# Altium footprint library ECSlib.PcbLib: 67 footprints (part 4 of 5)
Each footprint in its own frame and in the unit in brackets; x right, y up, seen from the top. Pads: shape width x height; smd on the part's side, far side on the other; paste and mask are expansions set on the pad; w line width, h text height; cw(c..) or ccw(c..) is an arc to the next point about the centre after c.
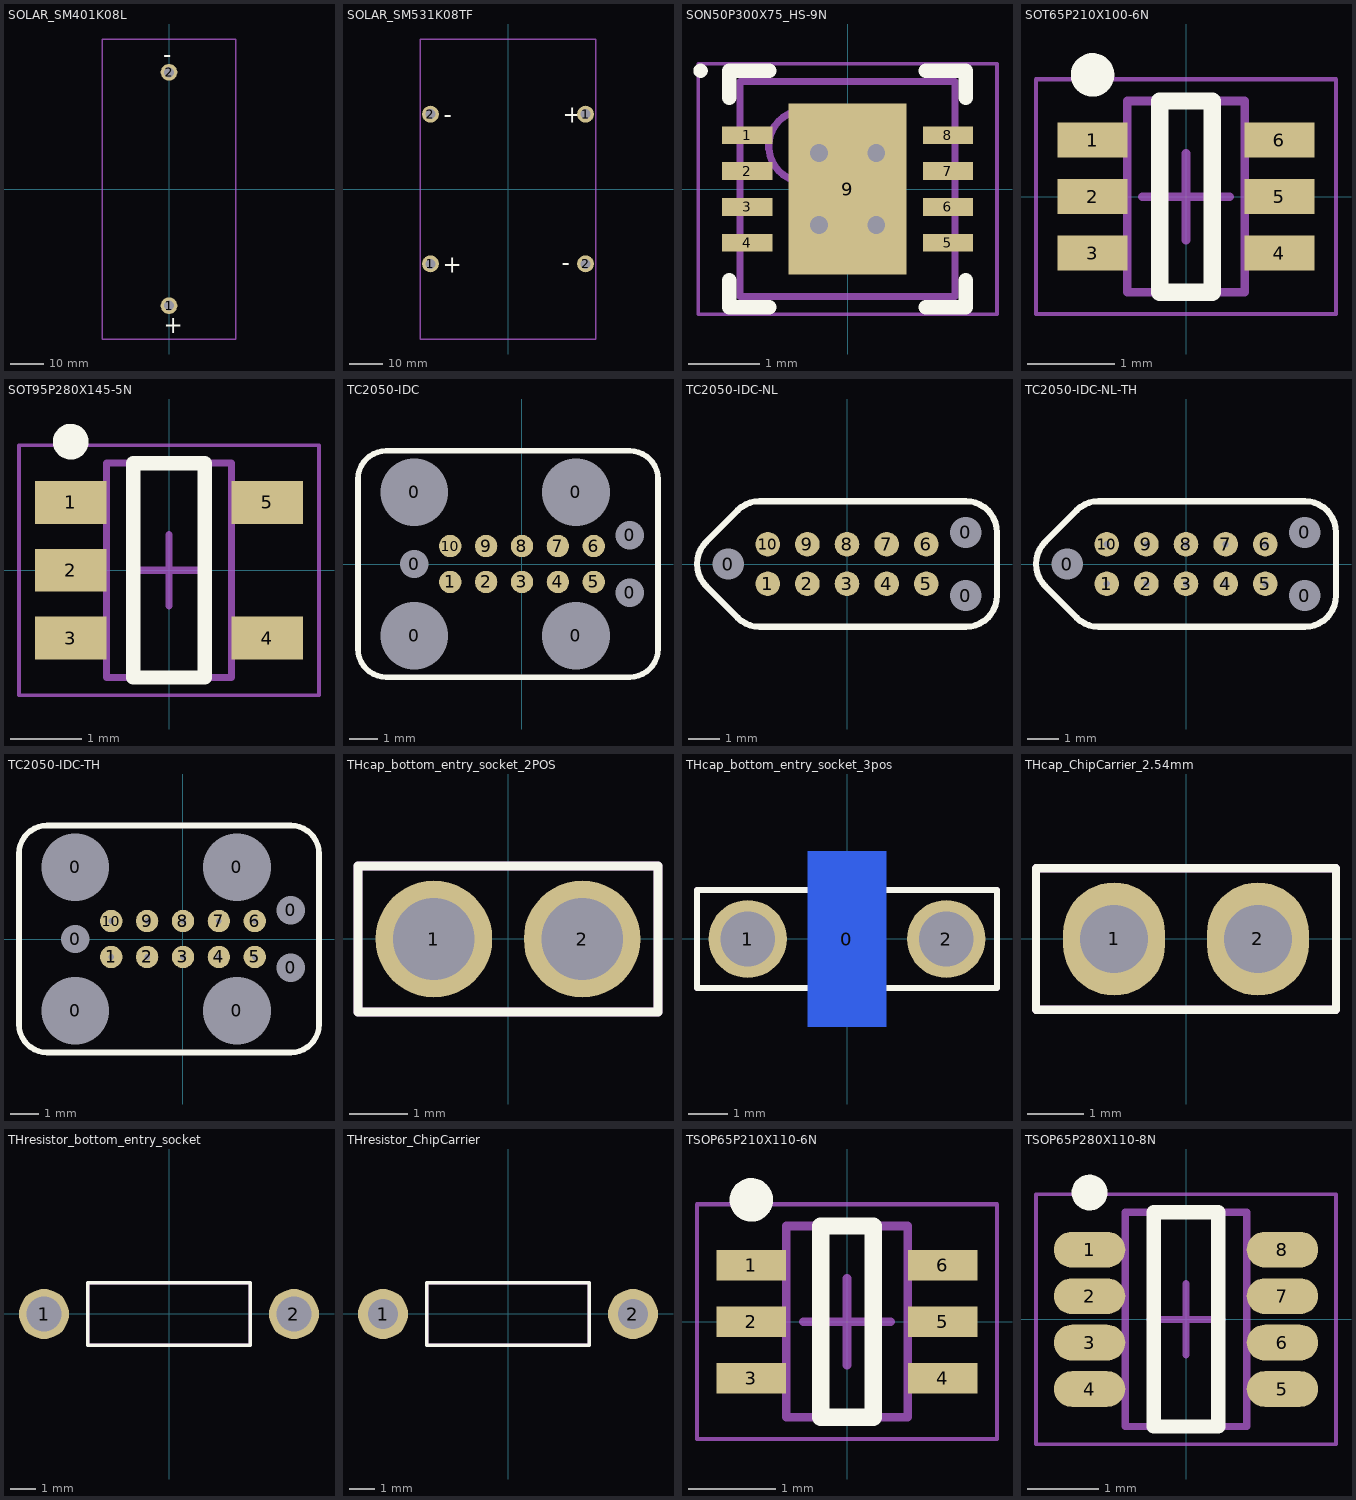
[diagram p3: the footprints below, top view; thin cyan lines are the x and y axes]

## SOLAR_SM401K08L [mm] "Solar Panel 89mmx52mm"
pads (2):
  round 5 hole 3: 1(0,-35) 2(0,35)
Top Overlay:
  text "+" at -1.6,-43.2 h5
  text "-" at -1.7,37.9 h5
Bottom Overlay:
  text "+" at -1.6,-43.2 h5
  text "-" at -1.7,37.9 h5
Mechanical 13:
  lines w0.4: -20,-45 -20,45 20,45 20,-45 -20,-45
3D body: height 1.8, standoff 0, extent -20,-45 20,45

## SOLAR_SM531K08TF [mm] "Solar Panel 89mmx52mm"
pads (4):
  round 5 hole 3: 1(-23,-22.2) 1(23,22.2) 2(-23,22.2) 2(23,-22.2)
Top Overlay:
  text "-" at 16,-24.3 h5
  text "+" at -19.4,-24.9 h5
  text "+" at 16.3,19.7 h5
  text "-" at -19,19.7 h5
Bottom Overlay:
  text "-" at 16,-24.3 h5
  text "+" at -19.4,-24.9 h5
  text "+" at 16.3,19.7 h5
  text "-" at -19,19.7 h5
Mechanical 13:
  lines w0.4: -26,-44.5 -26,44.5 26,44.5 26,-44.5 -26,-44.5
3D body: height 1.8, standoff 0, extent -26,-44.5 26,44.5

## SON50P300X75_HS-9N [mm] "SON, 8-Leads, Body 3.00x3.00mm, Pitch 0.50mm, Thermal Pad 2.38x1.58mm, IPC Medium Density"
height 0.75
pads (9):
  rect 0.7x0.25 smd mask+0: 1(-1.4,0.75) 2(-1.4,0.25) 3(-1.4,-0.25) 4(-1.4,-0.75) 5(1.4,-0.75) 6(1.4,-0.25) 7(1.4,0.25) 8(1.4,0.75)
  rect 1.65x2.38 smd mask+0: 9(0,0)
via -0.4,0.5 diameter 0.8 hole 0.25
via 0.4,0.5 diameter 0.8 hole 0.25
via -0.4,-0.5 diameter 0.8 hole 0.25
via 0.4,-0.5 diameter 0.8 hole 0.25
Top Overlay:
  circle w0.1: c-2.05,1.65 r0.05
  lines w0.2: -1.65,-1.275 -1.65,-1.65 -1.09,-1.65 ; -1.65,1.275 -1.65,1.65 -1.09,1.65 ; 1.09,-1.65 1.65,-1.65 1.65,-1.275 ; 1.09,1.65 1.65,1.65 1.65,1.275
Assembly Top:
  circle w0.1: c-0.6,0.6 r0.5
  lines w0.1: -1.5,-1.5 -1.5,1.5 1.5,1.5 1.5,-1.5 -1.5,-1.5
Courtyard Top:
  lines w0.05: -2.085,-1.75 -2.085,1.75 2.085,1.75 2.085,-1.75 -2.085,-1.75
  lines w0.1: -0.5,0 0.5,0 ; 0,-0.5 0,0.5
3D body: height 0.75, standoff 0, extent -1.5,-1.5 1.5,1.5

## SOT65P210X100-6N [mm] "SOT23, 6-Leads, Body 2.00x2.10mm, Pitch 0.65mm, IPC Medium Density"
height 1
pads (6):
  rect 0.8x0.4 smd: 1(-1.075,0.65) 2(-1.075,0) 3(-1.075,-0.65) 4(1.075,-0.65) 5(1.075,0) 6(1.075,0.65)
Top Overlay:
  circle w0.25: c-1.075,1.4 r0.125
  lines w0.2: -0.3,-1.1 0.3,-1.1 0.3,1.1 -0.3,1.1 -0.3,-1.1
Assembly Top:
  lines w0.1: -0.675,-1.1 -0.675,1.1 0.675,1.1 0.675,-1.1 -0.675,-1.1
Courtyard Top:
  lines w0.05: -1.725,-1.35 -1.725,1.35 1.725,1.35 1.725,-1.35 -1.725,-1.35
  lines w0.1: -0.5,0 0.5,0 ; 0,-0.5 0,0.5
3D body: height 1, standoff 0, extent -0.675,-1.1 0.675,1.1

## SOT95P280X145-5N [mm] "SOT23, 5-Leads, Body 2.90x2.80mm, Pitch 0.95mm, IPC Medium Density"
height 1.45
pads (5):
  rect 1x0.6 smd: 1(-1.375,0.95) 2(-1.375,0) 3(-1.375,-0.95) 4(1.375,-0.95) 5(1.375,0.95)
Top Overlay:
  circle w0.25: c-1.375,1.8 r0.125
  lines w0.2: -0.5,-1.5 -0.5,1.5 0.5,1.5 0.5,-1.5 -0.5,-1.5
Assembly Top:
  lines w0.1: -0.875,-1.5 0.875,-1.5 0.875,1.5 -0.875,1.5 -0.875,-1.5
Courtyard Top:
  lines w0.05: -2.1,-1.75 2.1,-1.75 2.1,1.75 -2.1,1.75 -2.1,-1.75
  lines w0.1: -0.5,0 0.5,0 ; 0,-0.5 0,0.5
3D body: height 1.45, standoff 0, extent -0.875,-1.5 0.875,1.5

## TC2050-IDC [mm]
pads (17):
  round 0.79 hole 2.4 unplated: 0(-3.81,-2.54) 0(-3.81,2.54) 0(1.905,-2.54) 0(1.905,2.54)
  round 0.79 hole 1 unplated: 0(-3.81,0) 0(3.81,-1.015) 0(3.81,1.015)
  round 0.79 smd paste-0.8: 1(-2.54,-0.635) 2(-1.27,-0.635) 3(0,-0.635) 4(1.27,-0.635) 5(2.54,-0.635) 6(2.54,0.635) 7(1.27,0.635) 8(0,0.635) 9(-1.27,0.635) 10(-2.54,0.635)
Top Overlay:
  lines w0.2: -5.8,-3 ccw(c-4.8,-3) -4.8,-4 3.81,-4 ccw(c3.81,-3) 4.81,-3 4.81,3 ccw(c3.81,3) 3.81,4 -4.8,4 ccw(c-4.8,3) -5.8,3 -5.8,-3
Bottom Overlay:
  lines w0.2: -4.62,-3.7 -4.62,-5.2 -3.02,-5.2 -3.02,-3.7 ; -4.6,3.7 -4.6,5.2 -3,5.2 -3,3.7 ; 1.095,-3.7 1.095,-5.2 2.695,-5.2 2.695,-3.7 ; 1.115,3.7 1.115,5.2 2.715,5.2 2.715,3.7

## TC2050-IDC-NL [mm]
pads (13):
  round 0.79 hole 1 unplated: 0(-3.81,0) 0(3.81,-1.015) 0(3.81,1.015)
  round 0.79 smd paste-0.8: 1(-2.54,-0.635) 2(-1.27,-0.635) 3(0,-0.635) 4(1.27,-0.635) 5(2.54,-0.635) 6(2.54,0.635) 7(1.27,0.635) 8(0,0.635) 9(-1.27,0.635) 10(-2.54,0.635)
Top Overlay:
  lines w0.2: -3.507,-1.722 ccw(c-2.8,-1.015) -2.8,-2.015 3.81,-2.015 ccw(c3.81,-1.015) 4.81,-1.015 4.81,1.015 ccw(c3.81,1.015) 3.81,2.015 -2.8,2.015 ccw(c-2.8,1.015) -3.507,1.722 ; -3.505,-1.72 -4.517,-0.707 cw(c-3.81,0) -4.517,0.707 -3.505,1.72

## TC2050-IDC-NL-TH [mm]
pads (13):
  round 0.79 hole 1 unplated: 0(-3.81,0) 0(3.81,-1.015) 0(3.81,1.015)
  round 0.79 hole 0.2 unplated paste-0.8: 1(-2.54,-0.635) 2(-1.27,-0.635) 3(0,-0.635) 4(1.27,-0.635) 5(2.54,-0.635) 6(2.54,0.635) 7(1.27,0.635) 8(0,0.635) 9(-1.27,0.635) 10(-2.54,0.635)
Top Overlay:
  lines w0.2: -3.507,-1.722 ccw(c-2.8,-1.015) -2.8,-2.015 3.81,-2.015 ccw(c3.81,-1.015) 4.81,-1.015 4.81,1.015 ccw(c3.81,1.015) 3.81,2.015 -2.8,2.015 ccw(c-2.8,1.015) -3.507,1.722 ; -3.505,-1.72 -4.517,-0.707 cw(c-3.81,0) -4.517,0.707 -3.505,1.72

## TC2050-IDC-TH [mm]
pads (17):
  round 0.79 hole 2.4 unplated: 0(-3.81,-2.54) 0(-3.81,2.54) 0(1.905,-2.54) 0(1.905,2.54)
  round 0.79 hole 1 unplated: 0(-3.81,0) 0(3.81,-1.015) 0(3.81,1.015)
  round 0.79 hole 0.2 unplated paste-0.8: 1(-2.54,-0.635) 2(-1.27,-0.635) 3(0,-0.635) 4(1.27,-0.635) 5(2.54,-0.635) 6(2.54,0.635) 7(1.27,0.635) 8(0,0.635) 9(-1.27,0.635) 10(-2.54,0.635)
Top Overlay:
  lines w0.2: -5.8,-3.015 ccw(c-4.8,-3.015) -4.8,-4.015 3.81,-4.015 ccw(c3.81,-3.015) 4.81,-3.015 4.81,3.015 ccw(c3.81,3.015) 3.81,4.015 -4.8,4.015 ccw(c-4.8,3.015) -5.8,3.015 -5.8,-3.015
Bottom Overlay:
  lines w0.2: -4.62,-3.7 -4.62,-5.2 -3.02,-5.2 -3.02,-3.7 ; -4.6,3.7 -4.6,5.2 -3,5.2 -3,3.7 ; 1.095,-3.7 1.095,-5.2 2.695,-5.2 2.695,-3.7 ; 1.115,3.7 1.115,5.2 2.715,5.2 2.715,3.7

## THcap_bottom_entry_socket_2POS [mm]
pads (2):
  round 2 / inner rect 1.4x1.4 / far side rect 2x4.5 hole 1.4: 1(-1.27,0) 2(1.27,0)
Top Overlay:
  lines w0.15: 2.57,-1.25 2.57,1.25 ; 2.57,-1.25 -2.57,-1.25 -2.57,1.25 2.57,1.25
Mechanical 13:
  lines w0.15: 2.57,-1.25 2.57,1.25 ; 2.57,-1.25 -2.57,-1.25 -2.57,1.25 2.57,1.25
3D body: height 0.2, standoff 0, extent 0.97,-1.6 1.57,-0.7
3D body: height 0.2, standoff 0, extent 0.97,0.7 1.57,1.6
3D body: height 7, standoff 0.2, extent -0.03,0 2.57,1.3
3D body: height 7, standoff 0.2, extent -0.03,-1.3 2.57,0
3D body: height 0.2, standoff 0, extent -1.57,-1.6 -0.97,-0.7
3D body: height 0.2, standoff 0, extent -1.57,0.7 -0.97,1.6
3D body: height 7, standoff 0.2, extent -2.57,0 0.03,1.3
3D body: height 7, standoff 0.2, extent -2.57,-1.3 0.03,0

## THcap_bottom_entry_socket_3pos [mm]
pads (3):
  rect 2x4.5 smd far side: 0(0,0)
  round 2 / inner rect 1.4x1.4 / far side rect 2x4.5 hole 1.4: 1(-2.54,0) 2(2.54,0)
Top Overlay:
  lines w0.15: -3.84,-1.25 3.84,-1.25 3.84,1.25 -3.84,1.25 -3.84,-1.25
Mechanical 13:
  lines w0.15: -3.84,-1.25 3.84,-1.25 3.84,1.25 -3.84,1.25 -3.84,-1.25
3D body: height 7, standoff 0.2, extent -3.84,-1.3 -1.24,0
3D body: height 7, standoff 0.2, extent -3.84,0 -1.24,1.3
3D body: height 0.2, standoff 0, extent -2.84,0.7 -2.24,1.6
3D body: height 0.2, standoff 0, extent -2.84,-1.6 -2.24,-0.7
3D body: height 7, standoff 0.2, extent 1.24,-1.3 3.84,0
3D body: height 7, standoff 0.2, extent 1.24,0 3.84,1.3
3D body: height 0.2, standoff 0, extent 2.24,0.7 2.84,1.6
3D body: height 0.2, standoff 0, extent 2.24,-1.6 2.84,-0.7
3D body: height 0.2, standoff 0, extent -0.3,0.7 0.3,1.6
3D body: height 0.2, standoff 0, extent -0.3,-1.6 0.3,-0.7
3D body: height 7, standoff 0.2, extent -1.3,-1.3 1.3,0
3D body: height 7, standoff 0.2, extent -1.3,0 1.3,1.3

## THcap_ChipCarrier_2.54mm [mm]
pads (2):
  oval 1.8x2 hole 1.2: 1(-1.27,0) 2(1.27,0)
Top Overlay:
  lines w0.15: -2.65,-1.25 2.65,-1.25 2.65,1.25 -2.65,1.25 -2.65,-1.25
Mechanical 13:
  lines w0.15: -2.65,-1.25 2.65,-1.25 2.65,1.25 -2.65,1.25 -2.65,-1.25
3D body: height 0.46, standoff 0, extent -1.97,-0.7 -0.57,0.7
3D body: height 0, standoff 0, extent -1.27,0 -1.27,0
3D body: height 0.46, standoff 0, extent 0.57,-0.7 1.97,0.7
3D body: height 0, standoff 0, extent 1.27,0 1.27,0
3D body: height 4, standoff 1, extent -1.5,-0.5 1.5,0.5
3D body: height 2.5, standoff 1, extent -1.5,-0.5 1.5,0.5
3D body: height 2, standoff 0, extent -1.47,-0.2 -1.07,0.2
3D body: height 2, standoff 0, extent 1.07,-0.2 1.47,0.2

## THresistor_bottom_entry_socket [mm]
pads (2):
  round 2 / inner rect 1.4x1.4 / far side rect 4.5x2 hole 1.4: 1(-5,0) 2(5,0)
Top Overlay:
  lines w0.15: -3.25,-1.25 -3.25,1.25 3.25,1.25 3.25,-1.25 -3.25,-1.25
Mechanical 13:
  lines w0.15: -3.25,-1.25 -3.25,1.25 3.25,1.25 3.25,-1.25 -3.25,-1.25
3D body: height 0.2, standoff 0, extent 5.7,-0.3 6.6,0.3
3D body: height 0.2, standoff 0, extent 3.4,-0.3 4.3,0.3
3D body: height 0.2, standoff 0, extent -4.3,-0.3 -3.4,0.3
3D body: height 0.2, standoff 0, extent -6.6,-0.3 -5.7,0.3
3D body: height 7, standoff 0.2, extent 3.7,-1.3 5,1.3
3D body: height 7, standoff 0.2, extent 5,-1.3 6.3,1.3
3D body: height 7, standoff 0.2, extent -6.3,-1.3 -5,1.3
3D body: height 7, standoff 0.2, extent -5,-1.3 -3.7,1.3
3D body "User Library-Res40-Axial 0_25W-1K.step": height 2.51, standoff -1.9, extent -5.38,-1.2 5.38,1.2

## THresistor_ChipCarrier [mm]
pads (2):
  round 2 hole 1.2: 1(-5,0) 2(5,0)
Top Overlay:
  lines w0.15: -3.25,-1.25 3.25,-1.25 3.25,1.25 -3.25,1.25 -3.25,-1.25
Mechanical 13:
  lines w0.15: -3.25,-1.25 3.25,-1.25 3.25,1.25 -3.25,1.25 -3.25,-1.25
3D body "User Library-Res40-Axial 0_25W-1K.step": height 2.51, standoff -1.9, extent -5.38,-1.2 5.38,1.2
3D body: height 0.46, standoff 0, extent -5.7,-0.7 -4.3,0.7
3D body: height 0, standoff 0, extent -5,0 -5,0
3D body: height 0.46, standoff 0, extent 4.3,-0.7 5.7,0.7
3D body: height 0, standoff 0, extent 5,0 5,0

## TSOP65P210X110-6N [mm] "TSOP, 6-Leads, Body 2.00x1.25mm, Pitch 0.65mm, IPC Medium Density"
height 1.1
pads (6):
  rect 0.8x0.35 smd: 1(-1.1,0.65) 2(-1.1,0) 3(-1.1,-0.65) 4(1.1,-0.65) 5(1.1,0) 6(1.1,0.65)
Top Overlay:
  circle w0.25: c-1.1,1.4 r0.125
  lines w0.2: -0.3,-1.1 -0.3,1.1 0.3,1.1 0.3,-1.1 -0.3,-1.1
Assembly Top:
  lines w0.1: -0.7,-1.1 -0.7,1.1 0.7,1.1 0.7,-1.1 -0.7,-1.1
Courtyard Top:
  lines w0.05: -1.725,-1.35 -1.725,1.35 1.725,1.35 1.725,-1.35 -1.725,-1.35
  lines w0.1: -0.5,0 0.5,0 ; 0,-0.5 0,0.5
3D body: height 1.1, standoff 0, extent -0.7,-1.1 0.7,1.1

## TSOP65P280X110-8N [mm] "TSOP, 8-Leads, Body 2.90x1.60mm, Pitch 0.65mm, IPC Medium Density"
height 1.1
pads (8):
  oval 1x0.5 smd: 1(-1.35,0.975) 2(-1.35,0.325) 3(-1.35,-0.325) 4(-1.35,-0.975) 5(1.35,-0.975) 6(1.35,-0.325) 7(1.35,0.325) 8(1.35,0.975)
Top Overlay:
  circle w0.25: c-1.35,1.775 r0.125
  lines w0.2: -0.45,-1.5 0.45,-1.5 0.45,1.5 -0.45,1.5 -0.45,-1.5
Assembly Top:
  lines w0.1: -0.85,-1.5 0.85,-1.5 0.85,1.5 -0.85,1.5 -0.85,-1.5
Courtyard Top:
  lines w0.05: -2.1,-1.75 2.1,-1.75 2.1,1.75 -2.1,1.75 -2.1,-1.75
  lines w0.1: -0.5,0 0.5,0 ; 0,-0.5 0,0.5
3D body: height 1.1, standoff 0.15, extent -0.85,-1.5 0.85,1.5